# EAGLE library part LT1818CS8#PBF (library LT1818CS8#PBF)
LT1818CS8#PBF, Operational Amplifier Voltage Feedback 360MHz, 12 V, 5 V, 9 V, 8-Pin SOIC Source: Datasheet <http://cds.linear.com/docs/en/datasheet/18189fb.pdf>
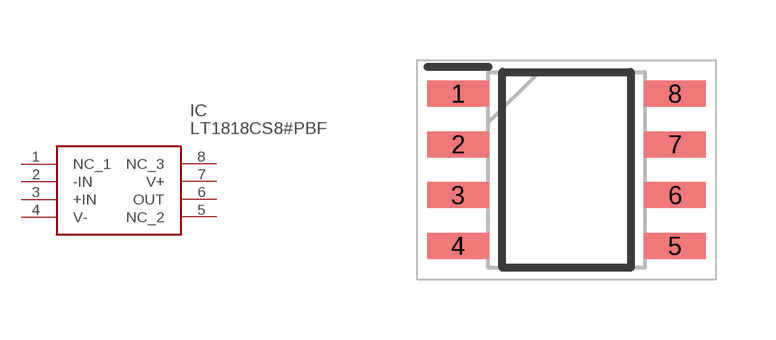
[diagram p0: symbol with the pads of SOIC127P599X175-8N; footprint SOIC127P599X175-8N]

Designator prefix IC

## LT1818CS8#PBF (Description: LT1818CS8#PBF, Operational Amplifier Voltage Feedback 360MHz, 12 V, 5 V, 9 V, 8-Pin SOIC; Height: 1.752mm; Manufacturer_Name: Analog Devices; Manufacturer_Part_Number: LT1818CS8#PBF; Mouser_Part_Number: 584-LT1818CS8#PBF; Mouser_Price-Stock: https://www.mouser.co.uk/ProductDetail/Analog-Devices/LT1818CS8PBF?qs=ytflclh7QUUppAef0n%252BGjw%3D%3D)  [SOIC127P599X175-8N]
1  NC_1
2  -IN
3  +IN
4  V-
5  NC_2
6  OUT
7  V+
8  NC_3

## Footprint SOIC127P599X175-8N (pad centres in mm)
8-LEAD PLASTIC SO
smd 1.526 x 0.65: 1 -2.712,1.905; 2 -2.712,0.635; 3 -2.712,-0.635; 4 -2.712,-1.905; 5 2.712,-1.905; 6 2.712,-0.635; 7 2.712,0.635; 8 2.712,1.905